# EAGLE library part MICROSDBRK (library AQS)
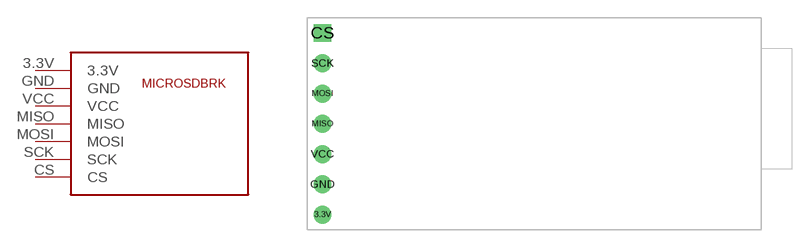
[diagram p7: symbol with the pads of MICROSDBRK; footprint MICROSDBRK]

Designator prefix -

## MICROSDBRK  [MICROSDBRK]
3.3V  3.3V  pwr
CS  CS
GND  GND  pwr
MISO  MISO
MOSI  MOSI
SCK  SCK
VCC  VCC  pwr

## Footprint MICROSDBRK (pad centres in mm)
drill 1: 3.3V -16.51,-8.89; GND -16.51,-6.35; MISO -16.51,-1.27; MOSI -16.51,1.27; SCK -16.51,3.81; VCC -16.51,-3.81
drill 1 square: CS -16.51,6.35